# EAGLE library part XBEE_PRO_S3B (library xbee)
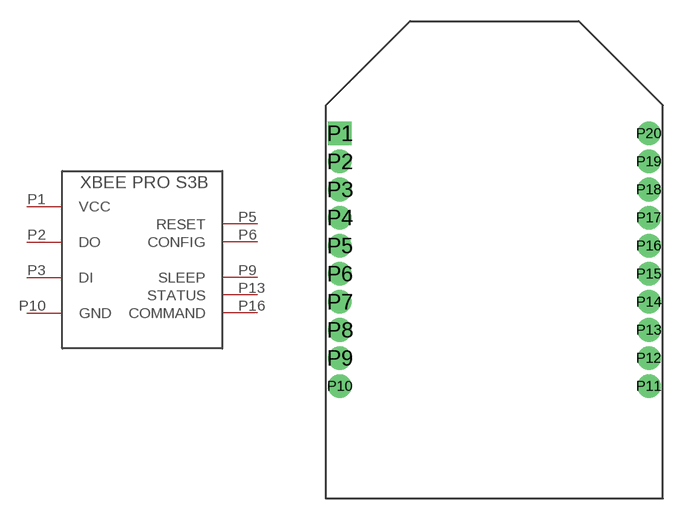
[diagram p0: symbol with the pads of PRO_S3B; footprint PRO_S3B]

Designator prefix -

## XBEE_PRO_S3B  [PRO_S3B]
P1  VCC
P2  DO
P3  DI
P5  RESET
P6  CONFIG
P9  SLEEP
P10  GND
P13  STATUS
P16  COMMAND

## Footprint PRO_S3B (pad centres in mm)
drill 0.7 pad 1.676 square: P1 -11,0
drill 0.7 pad 1.676: P2 -11,-2; P3 -11,-4; P4 -11,-6; P5 -11,-8; P6 -11,-10; P7 -11,-12; P8 -11,-14; P9 -11,-16; P10 -11,-18; P11 11,-18; P12 11,-16; P13 11,-14; P14 11,-12; P15 11,-10; P16 11,-8; P17 11,-6; P18 11,-4; P19 11,-2; P20 11,0